# EAGLE library part ADS1248 (library HAB)
ADS1248 24-bit, 2-kSPS, Analog-To-Digital Converters with Programmable Gain Amplifier (PGA) for Sensor Measurement
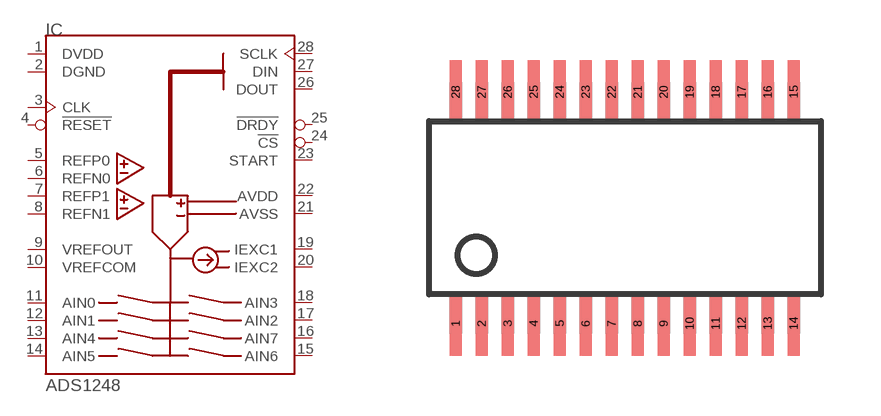
[diagram p7: symbol with the pads of SO28; footprint SO28]

Designator prefix IC

## ADS1248  [SO28]
1  DVDD  pwr
2  DGND  pwr
3  CLK  pas
4  !RESET!  in
5  REFP0  pas
6  REFN0  pas
7  REFP1  pas
8  REFN1  pas
9  VREFOUT  pwr
10  VREFCOM  pwr
11  AIN0
12  AIN1
13  AIN4
14  AIN5
15  AIN6
16  AIN7
17  AIN2
18  AIN3
19  IEXC1  pas
20  IEXC2  pas
21  AVSS  pwr
22  AVDD  pwr
23  START  in
24  !CS!  in
25  !DRDY!  out
26  DOUT  out
27  DIN  in
28  SCLK  in

## Footprint SO28 (pad centres in mm)
SO-28 TI SO-28 package, 4.5mm x 9.8mm body
smd 0.3 x 1.6: 1 -4.225,-2.894; 2 -3.575,-2.894; 3 -2.925,-2.894; 4 -2.275,-2.894; 5 -1.625,-2.894; 6 -0.975,-2.894; 7 -0.325,-2.894; 8 0.325,-2.894; 9 0.975,-2.894; 10 1.625,-2.894; 11 2.275,-2.894; 12 2.925,-2.894; 13 3.575,-2.894; 14 4.225,-2.894; 15 4.225,2.894; 16 3.575,2.894; 17 2.925,2.894; 18 2.275,2.894; 19 1.625,2.894; 20 0.975,2.894; 21 0.325,2.894; 22 -0.325,2.894; 23 -0.975,2.894; 24 -1.625,2.894; 25 -2.275,2.894; 26 -2.925,2.894; 27 -3.575,2.894; 28 -4.225,2.894